# EAGLE library part 61308021121 (library Wuerth_Elektronik_eiCan_Pin_&_Socked_Headers_v1.3)
WR-PHD 2.54mm Dual Pin Heater, 80 Pins
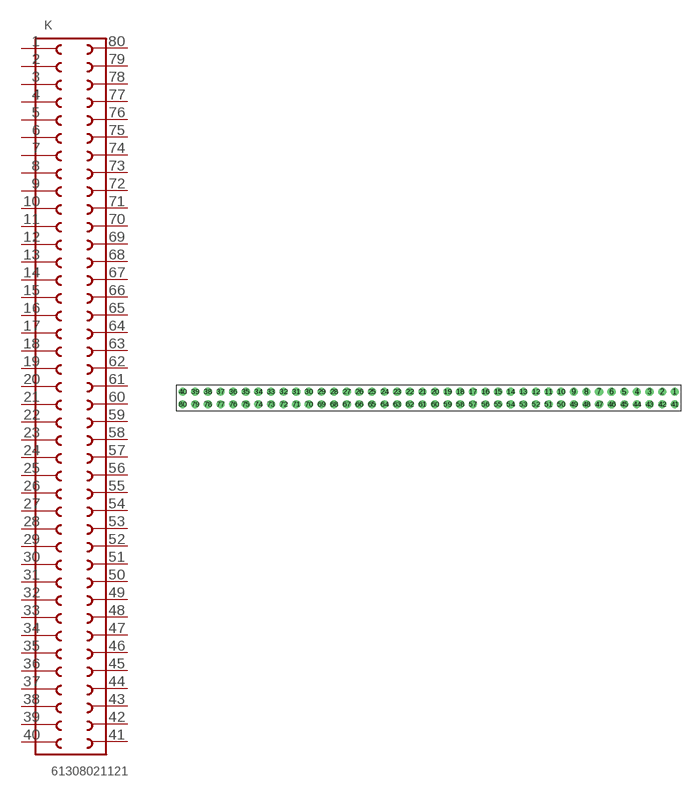
[diagram p38: symbol with the pads of 61308021121; footprint 61308021121]

Designator prefix K

## 61308021121  [61308021121]
1  1  pas
2  2  pas
3  3  pas
4  4  pas
5  5  pas
6  6  pas
7  7  pas
8  8  pas
9  9  pas
10  10  pas
11  11  pas
12  12  pas
13  13  pas
14  14  pas
15  15  pas
16  16  pas
17  17  pas
18  18  pas
19  19  pas
20  20  pas
21  21  pas
22  22  pas
23  23  pas
24  24  pas
25  25  pas
26  26  pas
27  27  pas
28  28  pas
29  29  pas
30  30  pas
31  31  pas
32  32  pas
33  33  pas
34  34  pas
35  35  pas
36  36  pas
37  37  pas
38  38  pas
39  39  pas
40  40  pas
41  41  pas
42  42  pas
43  43  pas
44  44  pas
45  45  pas
46  46  pas
47  47  pas
48  48  pas
49  49  pas
50  50  pas
51  51  pas
52  52  pas
53  53  pas
54  54  pas
55  55  pas
56  56  pas
57  57  pas
58  58  pas
59  59  pas
60  60  pas
61  61  pas
62  62  pas
63  63  pas
64  64  pas
65  65  pas
66  66  pas
67  67  pas
68  68  pas
69  69  pas
70  70  pas
71  71  pas
72  72  pas
73  73  pas
74  74  pas
75  75  pas
76  76  pas
77  77  pas
78  78  pas
79  79  pas
80  80  pas

## Footprint 61308021121 (pad centres in mm)
WR-PHD 2.54mm Dual Pin Header, 80 Pins
drill 1.1 round: 1 49.53,1.27; 2 46.99,1.27; 3 44.45,1.27; 4 41.91,1.27; 5 39.37,1.27; 6 36.83,1.27; 7 34.29,1.27; 8 31.75,1.27; 9 29.21,1.27; 10 26.67,1.27; 11 24.13,1.27; 12 21.59,1.27; 13 19.05,1.27; 14 16.51,1.27; 15 13.97,1.27; 16 11.43,1.27; 17 8.89,1.27; 18 6.35,1.27; 19 3.81,1.27; 20 1.27,1.27; 21 -1.27,1.27; 22 -3.81,1.27; 23 -6.35,1.27; 24 -8.89,1.27; 25 -11.43,1.27; 26 -13.97,1.27; 27 -16.51,1.27; 28 -19.05,1.27; 29 -21.59,1.27; 30 -24.13,1.27; 31 -26.67,1.27; 32 -29.21,1.27; 33 -31.75,1.27; 34 -34.29,1.27; 35 -36.83,1.27; 36 -39.37,1.27; 37 -41.91,1.27; 38 -44.45,1.27; 39 -46.99,1.27; 40 -49.53,1.27; 41 49.53,-1.27; 42 46.99,-1.27; 43 44.45,-1.27; 44 41.91,-1.27; 45 39.37,-1.27; 46 36.83,-1.27; 47 34.29,-1.27; 48 31.75,-1.27; 49 29.21,-1.27; 50 26.67,-1.27; 51 24.13,-1.27; 52 21.59,-1.27; 53 19.05,-1.27; 54 16.51,-1.27; 55 13.97,-1.27; 56 11.43,-1.27; 57 8.89,-1.27; 58 6.35,-1.27; 59 3.81,-1.27; 60 1.27,-1.27; 61 -1.27,-1.27; 62 -3.81,-1.27; 63 -6.35,-1.27; 64 -8.89,-1.27; 65 -11.43,-1.27; 66 -13.97,-1.27; 67 -16.51,-1.27; 68 -19.05,-1.27; 69 -21.59,-1.27; 70 -24.13,-1.27; 71 -26.67,-1.27; 72 -29.21,-1.27; 73 -31.75,-1.27; 74 -34.29,-1.27; 75 -36.83,-1.27; 76 -39.37,-1.27; 77 -41.91,-1.27; 78 -44.45,-1.27; 79 -46.99,-1.27; 80 -49.53,-1.27